# Altium footprint library BQ25792RQMR.PcbLib: 1 footprints
Each footprint in its own frame and in the unit in brackets; x right, y up, seen from the top. Pads: shape width x height; smd on the part's side, far side on the other; paste and mask are expansions set on the pad; w line width, h text height; cw(c..) or ccw(c..) is an arc to the next point about the centre after c.
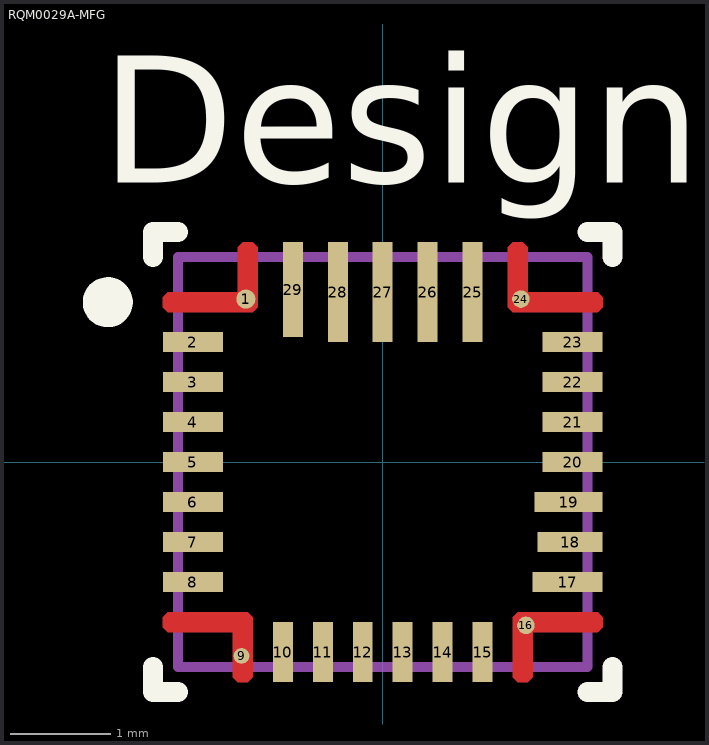
[diagram p0: the footprint, top view; thin cyan lines are the x and y axes]

## RQM0029A-MFG [mm]
pads (29):
  round 0.192 smd paste+0 mask+0: 1(-1.369,1.631)
  rect 0.6x0.2 smd paste+0 mask+0: 2(-1.9,1.2) 3(-1.9,0.8) 4(-1.9,0.4) 5(-1.9,0) 6(-1.9,-0.4) 7(-1.9,-0.8) 8(-1.9,-1.2) 20(1.9,0) 21(1.9,0.4) 22(1.9,0.8) 23(1.9,1.2)
  round 0.158 smd paste+0 mask+0: 9(-1.412,-1.937)
  rect 0.2x0.6 smd paste+0 mask+0: 10(-1,-1.9) 11(-0.6,-1.9) 12(-0.2,-1.9) 13(0.2,-1.9) 14(0.6,-1.9) 15(1,-1.9)
  round 0.175 smd paste+0 mask+0: 16(1.431,-1.631) 24(1.381,1.631)
  rect 0.7x0.2 smd paste+0 mask+0: 17(1.85,-1.2)
  rect 0.65x0.2 smd paste+0 mask+0: 18(1.875,-0.8)
  rect 0.68x0.2 smd paste+0 mask+0: 19(1.86,-0.4)
  rect 0.2x1 smd paste+0 mask+0: 25(0.9,1.7) 26(0.45,1.7) 27(0,1.7) 28(-0.45,1.7)
  rect 0.2x0.95 smd paste+0 mask+0: 29(-0.9,1.725)
Top Layer:
  region: -2.2,1.55 -2.2,1.65 -2.15,1.7 -1.45,1.7 -1.45,2.15 -1.4,2.2 -1.3,2.2 -1.25,2.15 -1.25,1.55 -1.3,1.5 -2.15,1.5
  region: -2.2,-1.55 -2.2,-1.65 -2.15,-1.7 -1.5,-1.7 -1.5,-2.15 -1.45,-2.2 -1.35,-2.2 -1.3,-2.15 -1.3,-1.55 -1.35,-1.5 -2.15,-1.5
  region: 2.2,-1.55 2.2,-1.65 2.15,-1.7 1.5,-1.7 1.5,-2.15 1.45,-2.2 1.35,-2.2 1.3,-2.15 1.3,-1.55 1.35,-1.5 2.15,-1.5
  region: 2.2,1.55 2.2,1.65 2.15,1.7 1.45,1.7 1.45,2.15 1.4,2.2 1.3,2.2 1.25,2.15 1.25,1.55 1.3,1.5 2.15,1.5
Top Overlay:
  circle w0.25: c-2.75,1.6 r0.125
  lines w0.2: -2.3,-2.05 -2.3,-2.3 -2.05,-2.3 ; -2.3,2.05 -2.3,2.3 -2.05,2.3 ; 2.05,-2.3 2.3,-2.3 2.3,-2.05 ; 2.05,2.3 2.3,2.3 2.3,2.05
  text "Designator9" at -2.819,2.794 h1.27
Top Paste:
  region: -2.2,1.55 -2.2,1.65 -2.15,1.7 -1.45,1.7 -1.45,2.15 -1.4,2.2 -1.3,2.2 -1.25,2.15 -1.25,1.55 -1.3,1.5 -2.15,1.5
  region: -2.15,-1.7 -2.2,-1.65 -2.2,-1.55 -2.15,-1.5 -1.35,-1.5 -1.3,-1.55 -1.3,-2.15 -1.35,-2.2 -1.45,-2.2 -1.5,-2.15 -1.5,-1.7
  region: 2.2,-1.55 2.2,-1.65 2.15,-1.7 1.5,-1.7 1.5,-2.15 1.45,-2.2 1.35,-2.2 1.3,-2.15 1.3,-1.55 1.35,-1.5 2.15,-1.5
  region: 2.15,1.7 2.2,1.65 2.2,1.55 2.15,1.5 1.3,1.5 1.25,1.55 1.25,2.15 1.3,2.2 1.4,2.2 1.45,2.15 1.45,1.7
Top Solder:
  region: -2.2,1.55 -2.2,1.65 -2.15,1.7 -1.45,1.7 -1.45,2.15 -1.4,2.2 -1.3,2.2 -1.25,2.15 -1.25,1.55 -1.3,1.5 -2.15,1.5
  region: -2.15,-1.7 -2.2,-1.65 -2.2,-1.55 -2.15,-1.5 -1.35,-1.5 -1.3,-1.55 -1.3,-2.15 -1.35,-2.2 -1.45,-2.2 -1.5,-2.15 -1.5,-1.7
  region: 2.2,-1.55 2.2,-1.65 2.15,-1.7 1.5,-1.7 1.5,-2.15 1.45,-2.2 1.35,-2.2 1.3,-2.15 1.3,-1.55 1.35,-1.5 2.15,-1.5
  region: 2.15,1.7 2.2,1.65 2.2,1.55 2.15,1.5 1.3,1.5 1.25,1.55 1.25,2.15 1.3,2.2 1.4,2.2 1.45,2.15 1.45,1.7
Mechanical 13:
  lines w0.1: -2.05,-2.05 2.05,-2.05 2.05,2.05 -2.05,2.05 -2.05,-2.05
  text ".Designator" at 0,-0.635 h1.27
3D body "RQM0029A.stp": height 1, standoff 0, extent -2,-2 2,2
3D body: height 0.25, standoff 0, extent 0,0 0.254,0.254